# Altium schematic symbol library CG0603MLC-05E.SchLib: 1 symbol
Pins are listed as number, name and electrical type; pins without a type are passive.

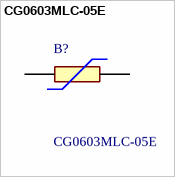
[diagram p0: symbol CG0603MLC-05E]

## CG0603MLC-05E
designator B?
Varistor, ESD Protector, 5VDC,20V,0603 Bourns MLC Series Power Varistor 0.5pF 20V 0603 Case; Geometry.Height: 0.55mm; Mouser Part Number: 652-CG0603MLC-05E; Mouser Price/Stock: https://www.mouser.co.uk/ProductDetail/Bourns/CG0603MLC-05E?qs=lDok7oSghXVLNKMK69q%252BFQ%3D%3D; Manufacturer_Name: Bourns; Manufacturer_Part_Number: CG0603MLC-05E; Datasheet Link: *
footprint VARC1608X55N
pins: 1, 2